# Altium schematic symbol library GRM033C81E104KE14D.SchLib: 1 symbol
Pins are listed as number, name and electrical type; pins without a type are passive.

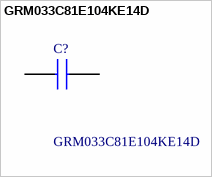
[diagram p0: symbol GRM033C81E104KE14D]

## GRM033C81E104KE14D
designator C?
Multilayer Ceramic Capacitors MLCC - SMD/SMT 0201 0.10uF 25volts *Derate Voltage/Temp; Manufacturer_Name: Murata Electronics; Geometry.Height: 0.33mm; Manufacturer_Part_Number: GRM033C81E104KE14D; Mouser Part Number: 81-GRM33C81E104KE14D; Mouser Price/Stock: https://www.mouser.co.uk/ProductDetail/Murata-Electronics/GRM033C81E104KE14D?qs=P%2FC4Eoq9CDwxe7d5nXqGrA%3D%3D; Arrow Part Number: GRM033C81E104KE14D; Arrow Price/Stock: https://www.arrow.com/en/products/grm033c81e104ke14d/murata-manufacturing; Datasheet Link: https://search.murata.co.jp/Ceramy/image/img/A01X/G101/ENG/GRM033C81E104KE14-01A.pdf
footprint CAPC0603X33N
pins: 1, 2